# Altium integrated library MICROCHIP_PowerManagement.IntLib: 2 symbols
Pins are listed as number, name and electrical type; pins without a type are passive.

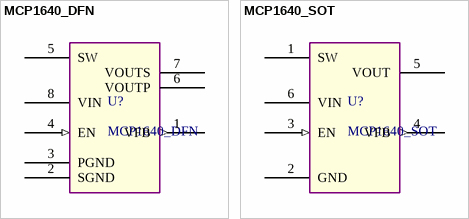
[diagram p0: symbols MCP1640_DFN to MCP1640_SOT]

## MCP1640_DFN
designator U?
0.65V Start-Up Synchronous Boost Regulator  with True Output Disconnect or Input/Output Bypass Option; ComponentLink1Description: Datasheet; ComponentLink1URL: http://ww1.microchip.com/downloads/en/DeviceDoc/20002234D.pdf; Supplier 1: Mouser; Supplier Part Number 1: 579-MCP1640I/MC
footprint SON50P200X300-8T142X162 (Small Outline No-Lead (SON with Tab), 0.50 mm pitch; 8 pin, 2.00 mm L X 3.00 mm W X 1.00 mm H body)
pins: 1 VFB (out) "Feedback Voltage Pin", 2 SGND (power) "Signal Ground Pin", 3 PGND (power) "Power Ground Pin", 4 EN (in) "Enable Control Input Pin", 5 SW "Switch Node, Boost Inductor Input Pin", 6 VOUTP (power) "Output Voltage Power Pin", 7 VOUTS (power) "Output Voltage Sense Pin", 8 VIN (power) "Input Voltage Pin", 9 EP (power) hidden to GND "Exposed Thermal Pad (EP); must be connected to VSS"

## MCP1640_SOT
designator U?
0.65V Start-Up Synchronous Boost Regulator  with True Output Disconnect or Input/Output Bypass Option; ComponentLink1Description: Datasheet; ComponentLink1URL: http://ww1.microchip.com/downloads/en/DeviceDoc/20002234D.pdf; Supplier 1: Mouser; Supplier Part Number 1: 579-MCP1640BT-I/CHY
footprint SOT95P270X145-6 (Small Outline Transistor (SOT23), 0.95 mm pitch; 6 pin, 2.90 mm L X 1.55 mm W X 1.45 mm H body)
pins: 1 SW "Switch Node, Boost Inductor Input Pin", 2 GND (power) "Ground Pin", 3 EN (in) "Enable Control Input Pin", 4 VFB (out) "Feedback Voltage Pin", 5 VOUT (power) "Output Voltage Pin", 6 VIN (power) "Input Voltage Pin"